# Altium schematic symbol library MCU_ST_STM32F7.SchLib: 113 symbols (part 7 of 7)
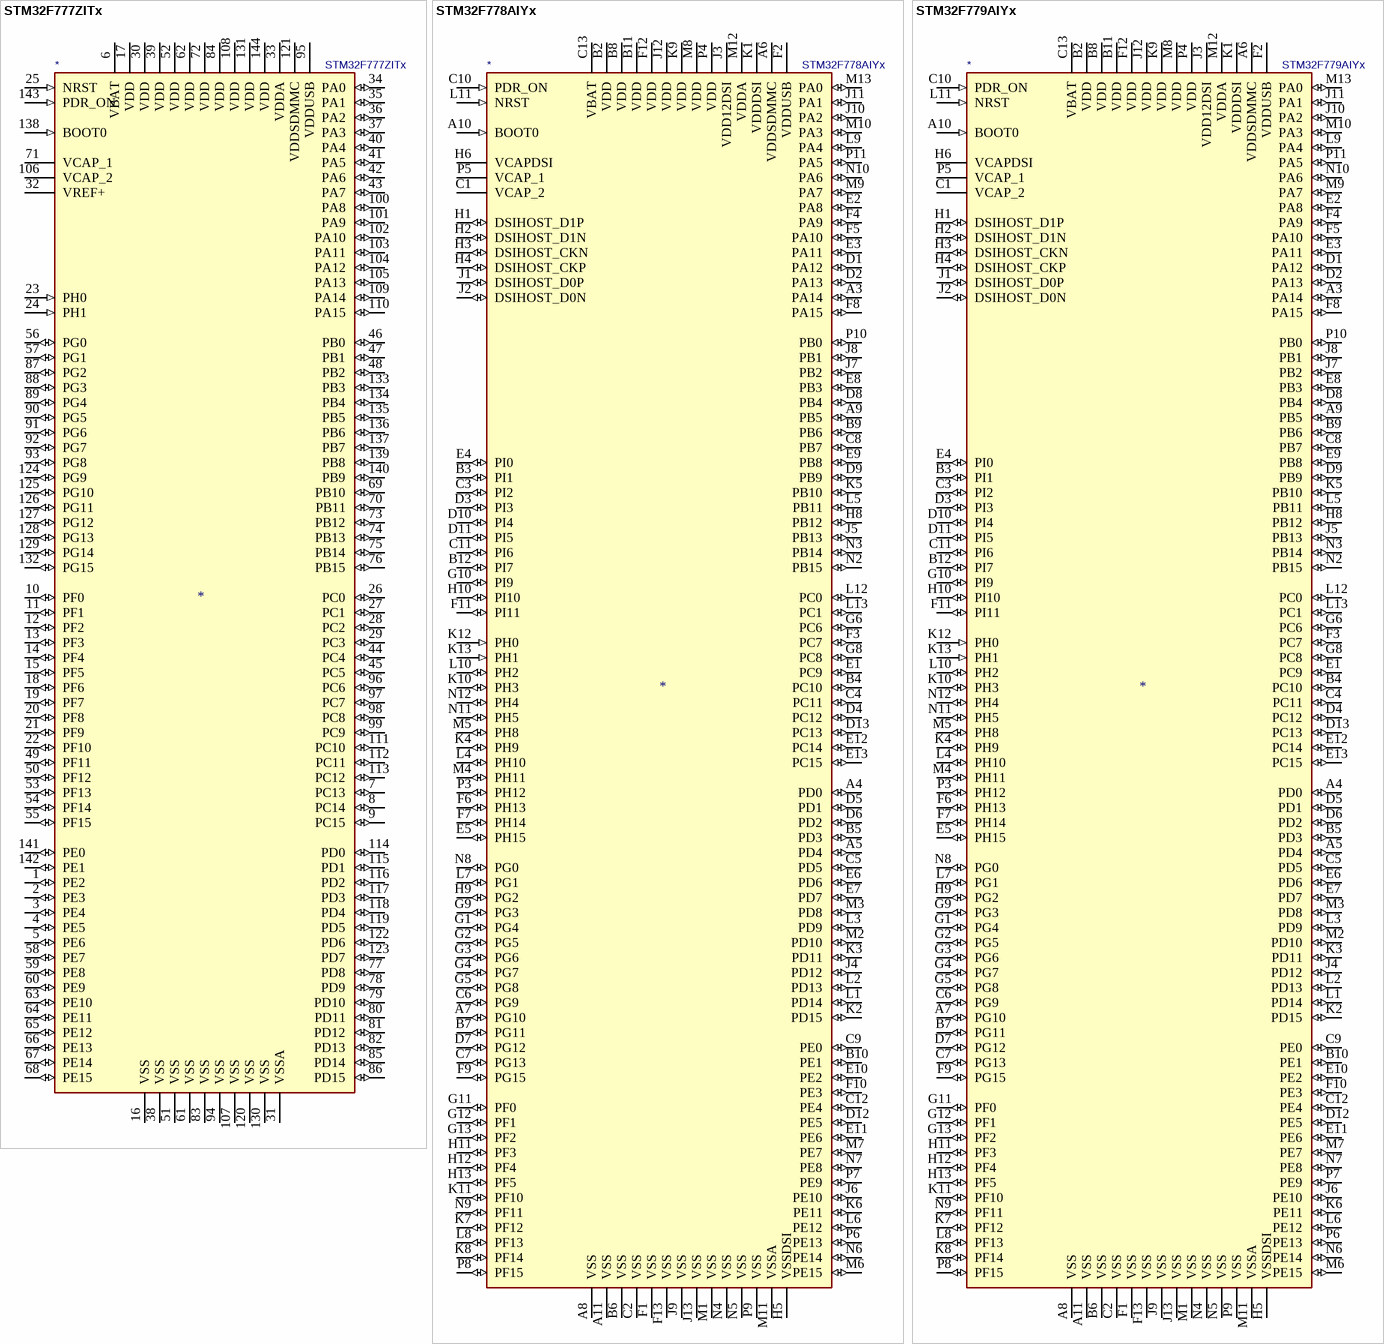
[diagram p47: symbols STM32F777ZITx to STM32F779AIYx]

## STM32F777ZITx
designator *  value STM32F777ZITx
ki_keywords: ARM Cortex-M7 STM32F7 STM32F7x7; ki_description: ARM Cortex-M7 MCU, 2048KB flash, 384KB RAM, 216MHz, 1.7-3.6V, 114 GPIO, LQFP-144; ki_fp_filters: LQFP*20x20mm*P0.5mm*; Footprint: Package_QFP:LQFP-144_20x20mm_P0.5mm; Supplier: http://www.st.com/st-web-ui/static/active/en/resource/technical/document/datasheet/DM00225424.pdf
footprint LQFP-144_20x20mm_P0.5mm
pins: 1 PE2 (io), 2 PE3 (io), 3 PE4 (io), 4 PE5 (io), 5 PE6 (io), 6 VBAT (power), 7 PC13 (io), 8 PC14 (io), 9 PC15 (io), 10 PF0 (io), 11 PF1 (io), 12 PF2 (io), 13 PF3 (io), 14 PF4 (io), 15 PF5 (io), 16 VSS (power), 17 VDD (power), 18 PF6 (io), 19 PF7 (io), 20 PF8 (io), 21 PF9 (io), 22 PF10 (io), 23 PH0 (in), 24 PH1 (in), 25 NRST (in), 26 PC0 (io), 27 PC1 (io), 28 PC2 (io), 29 PC3 (io), 30 VDD (power), 31 VSSA (power), 32 VREF+ (power), 33 VDDA (power), 34 PA0 (io), 35 PA1 (io), 36 PA2 (io), 37 PA3 (io), 38 VSS (power), 39 VDD (power), 40 PA4 (io), 41 PA5 (io), 42 PA6 (io), 43 PA7 (io), 44 PC4 (io), 45 PC5 (io), 46 PB0 (io), 47 PB1 (io), 48 PB2 (io), 49 PF11 (io), 50 PF12 (io), 51 VSS (power), 52 VDD (power), 53 PF13 (io), 54 PF14 (io), 55 PF15 (io), 56 PG0 (io), 57 PG1 (io), 58 PE7 (io), 59 PE8 (io), 60 PE9 (io), 61 VSS (power), 62 VDD (power), 63 PE10 (io), 64 PE11 (io), 65 PE12 (io), 66 PE13 (io), 67 PE14 (io), 68 PE15 (io), 69 PB10 (io), 70 PB11 (io), 71 VCAP_1 (power), 72 VDD (power), 73 PB12 (io), 74 PB13 (io), 75 PB14 (io), 76 PB15 (io), 77 PD8 (io), 78 PD9 (io), 79 PD10 (io), 80 PD11 (io), 81 PD12 (io), 82 PD13 (io), 83 VSS (power), 84 VDD (power), 85 PD14 (io), 86 PD15 (io), 87 PG2 (io), 88 PG3 (io), 89 PG4 (io), 90 PG5 (io), 91 PG6 (io), 92 PG7 (io), 93 PG8 (io), 94 VSS (power), 95 VDDUSB (power), 96 PC6 (io), 97 PC7 (io), 98 PC8 (io), 99 PC9 (io), 100 PA8 (io), 101 PA9 (io), 102 PA10 (io), 103 PA11 (io), 104 PA12 (io), 105 PA13 (io), 106 VCAP_2 (power), 107 VSS (power), 108 VDD (power), 109 PA14 (io), 110 PA15 (io), 111 PC10 (io), 112 PC11 (io), 113 PC12 (io), 114 PD0 (io), 115 PD1 (io), 116 PD2 (io), 117 PD3 (io), 118 PD4 (io), 119 PD5 (io), 120 VSS (power), 121 VDDSDMMC (power), 122 PD6 (io), 123 PD7 (io), 124 PG9 (io), 125 PG10 (io), 126 PG11 (io), 127 PG12 (io), 128 PG13 (io), 129 PG14 (io), 130 VSS (power), 131 VDD (power), 132 PG15 (io), 133 PB3 (io), 134 PB4 (io), 135 PB5 (io), 136 PB6 (io), 137 PB7 (io), 138 BOOT0 (in), 139 PB8 (io), 140 PB9 (io), 141 PE0 (io), 142 PE1 (io), 143 PDR_ON (in), 144 VDD (power)

## STM32F778AIYx
designator *  value STM32F778AIYx
ki_keywords: ARM Cortex-M7 STM32F7 STM32F7x8; ki_description: ARM Cortex-M7 MCU, 2048KB flash, 384KB RAM, 216MHz, 1.7-3.6V, 128 GPIO, WLCSP-180; ki_fp_filters: ST_WLCSP*Die451*; Footprint: Package_CSP:ST_WLCSP-180_Die451; Supplier: http://www.st.com/st-web-ui/static/active/en/resource/technical/document/datasheet/DM00225424.pdf
footprint ST_WLCSP-180_Die451
pins: A1 NC (in) hidden, A2 NC (in) hidden, A3 PA14 (io), A4 PD0 (io), A5 PD4 (io), A6 VDDSDMMC (power), A7 PG10 (io), A8 VSS (power), A9 PB5 (io), A10 BOOT0 (in), A11 VSS (power), A12 NC (in) hidden, A13 NC (in) hidden, B1 NC (in) hidden, B2 VDD (power), B3 PI1 (io), B4 PC10 (io), B5 PD3 (io), B6 VSS (power), B7 PG11 (io), B8 VDD (power), B9 PB6 (io), B10 PE1 (io), B11 VDD (power), B12 PI7 (io), B13 NC (in) hidden, C1 VCAP_2 (power), C2 VSS (power), C3 PI2 (io), C4 PC11 (io), C5 PD5 (io), C6 PG9 (io), C7 PG13 (io), C8 PB7 (io), C9 PE0 (io), C10 PDR_ON (in), C11 PI6 (io), C12 PE4 (io), C13 VBAT (power), D1 PA12 (io), D2 PA13 (io), D3 PI3 (io), D4 PC12 (io), D5 PD1 (io), D6 PD2 (io), D7 PG12 (io), D8 PB4 (io), D9 PB9 (io), D10 PI4 (io), D11 PI5 (io), D12 PE5 (io), D13 PC13 (io), E1 PC9 (io), E2 PA8 (io), E3 PA11 (io), E4 PI0 (io), E5 PH15 (io), E6 PD6 (io), E7 PD7 (io), E8 PB3 (io), E9 PB8 (io), E10 PE2 (io), E11 PE6 (io), E12 PC14 (io), E13 PC15 (io), F1 VSS (power), F2 VDDUSB (power), F3 PC7 (io), F4 PA9 (io), F5 PA10 (io), F6 PH13 (io), F7 PH14 (io), F8 PA15 (io), F9 PG15 (io), F10 PE3 (io), F11 PI11 (io), F12 VDD (power), F13 VSS (power), G1 PG4 (io), G2 PG5 (io), G3 PG6 (io), G4 PG7 (io), G5 PG8 (io), G6 PC6 (io), G8 PC8 (io), G9 PG3 (io), G10 PI9 (io), G11 PF0 (io), G12 PF1 (io), G13 PF2 (io), H1 DSIHOST_D1P (io), H2 DSIHOST_D1N (io), H3 DSIHOST_CKN (io), H4 DSIHOST_CKP (io), H5 VSSDSI (power), H6 VCAPDSI (power), H8 PB12 (io), H9 PG2 (io), H10 PI10 (io), H11 PF3 (io), H12 PF4 (io), H13 PF5 (io), J1 DSIHOST_D0P (io), J2 DSIHOST_D0N (io), J3 VDD12DSI (power), J4 PD12 (io), J5 PB13 (io), J6 PE10 (io), J7 PB2 (io), J8 PB1 (io), J9 VSS (power), J10 PA2 (io), J11 PA1 (io), J12 VDD (power), J13 VSS (power), K1 VDDDSI (power), K2 PD15 (io), K3 PD11 (io), K4 PH9 (io), K5 PB10 (io), K6 PE11 (io), K7 PF12 (io), K8 PF14 (io), K9 VDD (power), K10 PH3 (io), K11 PF10 (io), K12 PH0 (in), K13 PH1 (in), L1 PD14 (io), L2 PD13 (io), L3 PD9 (io), L4 PH10 (io), L5 PB11 (io), L6 PE12 (io), L7 PG1 (io), L8 PF13 (io), L9 PA4 (io), L10 PH2 (io), L11 NRST (in), L12 PC0 (io), L13 PC1 (io), M1 VSS (power), M2 PD10 (io), M3 PD8 (io), M4 PH11 (io), M5 PH8 (io), M6 PE15 (io), M7 PE7 (io), M8 VDD (power), M9 PA7 (io), M10 PA3 (io), M11 VSSA (power), M12 VDDA (power), M13 PA0 (io), N1 NC (in) hidden, N2 PB15 (io), N3 PB14 (io), N4 VSS (power), N5 VSS (power), N6 PE14 (io), N7 PE8 (io), N8 PG0 (io), N9 PF11 (io), N10 PA6 (io), N11 PH5 (io), N12 PH4 (io), N13 NC (in) hidden, P1 NC (in) hidden, P2 NC (in) hidden, P3 PH12 (io), P4 VDD (power), P5 VCAP_1 (power), P6 PE13 (io), P7 PE9 (io), P8 PF15 (io), P9 VSS (power), P10 PB0 (io), P11 PA5 (io), P12 NC (in) hidden, P13 NC (in) hidden

## STM32F779AIYx
designator *  value STM32F779AIYx
ki_keywords: ARM Cortex-M7 STM32F7 STM32F7x9; ki_description: ARM Cortex-M7 MCU, 2048KB flash, 384KB RAM, 216MHz, 1.7-3.6V, 128 GPIO, WLCSP-180; ki_fp_filters: ST_WLCSP*Die451*; Footprint: Package_CSP:ST_WLCSP-180_Die451; Supplier: http://www.st.com/st-web-ui/static/active/en/resource/technical/document/datasheet/DM00225424.pdf
footprint ST_WLCSP-180_Die451
pins: A1 NC (in) hidden, A2 NC (in) hidden, A3 PA14 (io), A4 PD0 (io), A5 PD4 (io), A6 VDDSDMMC (power), A7 PG10 (io), A8 VSS (power), A9 PB5 (io), A10 BOOT0 (in), A11 VSS (power), A12 NC (in) hidden, A13 NC (in) hidden, B1 NC (in) hidden, B2 VDD (power), B3 PI1 (io), B4 PC10 (io), B5 PD3 (io), B6 VSS (power), B7 PG11 (io), B8 VDD (power), B9 PB6 (io), B10 PE1 (io), B11 VDD (power), B12 PI7 (io), B13 NC (in) hidden, C1 VCAP_2 (power), C2 VSS (power), C3 PI2 (io), C4 PC11 (io), C5 PD5 (io), C6 PG9 (io), C7 PG13 (io), C8 PB7 (io), C9 PE0 (io), C10 PDR_ON (in), C11 PI6 (io), C12 PE4 (io), C13 VBAT (power), D1 PA12 (io), D2 PA13 (io), D3 PI3 (io), D4 PC12 (io), D5 PD1 (io), D6 PD2 (io), D7 PG12 (io), D8 PB4 (io), D9 PB9 (io), D10 PI4 (io), D11 PI5 (io), D12 PE5 (io), D13 PC13 (io), E1 PC9 (io), E2 PA8 (io), E3 PA11 (io), E4 PI0 (io), E5 PH15 (io), E6 PD6 (io), E7 PD7 (io), E8 PB3 (io), E9 PB8 (io), E10 PE2 (io), E11 PE6 (io), E12 PC14 (io), E13 PC15 (io), F1 VSS (power), F2 VDDUSB (power), F3 PC7 (io), F4 PA9 (io), F5 PA10 (io), F6 PH13 (io), F7 PH14 (io), F8 PA15 (io), F9 PG15 (io), F10 PE3 (io), F11 PI11 (io), F12 VDD (power), F13 VSS (power), G1 PG4 (io), G2 PG5 (io), G3 PG6 (io), G4 PG7 (io), G5 PG8 (io), G6 PC6 (io), G8 PC8 (io), G9 PG3 (io), G10 PI9 (io), G11 PF0 (io), G12 PF1 (io), G13 PF2 (io), H1 DSIHOST_D1P (io), H2 DSIHOST_D1N (io), H3 DSIHOST_CKN (io), H4 DSIHOST_CKP (io), H5 VSSDSI (power), H6 VCAPDSI (power), H8 PB12 (io), H9 PG2 (io), H10 PI10 (io), H11 PF3 (io), H12 PF4 (io), H13 PF5 (io), J1 DSIHOST_D0P (io), J2 DSIHOST_D0N (io), J3 VDD12DSI (power), J4 PD12 (io), J5 PB13 (io), J6 PE10 (io), J7 PB2 (io), J8 PB1 (io), J9 VSS (power), J10 PA2 (io), J11 PA1 (io), J12 VDD (power), J13 VSS (power), K1 VDDDSI (power), K2 PD15 (io), K3 PD11 (io), K4 PH9 (io), K5 PB10 (io), K6 PE11 (io), K7 PF12 (io), K8 PF14 (io), K9 VDD (power), K10 PH3 (io), K11 PF10 (io), K12 PH0 (in), K13 PH1 (in), L1 PD14 (io), L2 PD13 (io), L3 PD9 (io), L4 PH10 (io), L5 PB11 (io), L6 PE12 (io), L7 PG1 (io), L8 PF13 (io), L9 PA4 (io), L10 PH2 (io), L11 NRST (in), L12 PC0 (io), L13 PC1 (io), M1 VSS (power), M2 PD10 (io), M3 PD8 (io), M4 PH11 (io), M5 PH8 (io), M6 PE15 (io), M7 PE7 (io), M8 VDD (power), M9 PA7 (io), M10 PA3 (io), M11 VSSA (power), M12 VDDA (power), M13 PA0 (io), N1 NC (in) hidden, N2 PB15 (io), N3 PB14 (io), N4 VSS (power), N5 VSS (power), N6 PE14 (io), N7 PE8 (io), N8 PG0 (io), N9 PF11 (io), N10 PA6 (io), N11 PH5 (io), N12 PH4 (io), N13 NC (in) hidden, P1 NC (in) hidden, P2 NC (in) hidden, P3 PH12 (io), P4 VDD (power), P5 VCAP_1 (power), P6 PE13 (io), P7 PE9 (io), P8 PF15 (io), P9 VSS (power), P10 PB0 (io), P11 PA5 (io), P12 NC (in) hidden, P13 NC (in) hidden

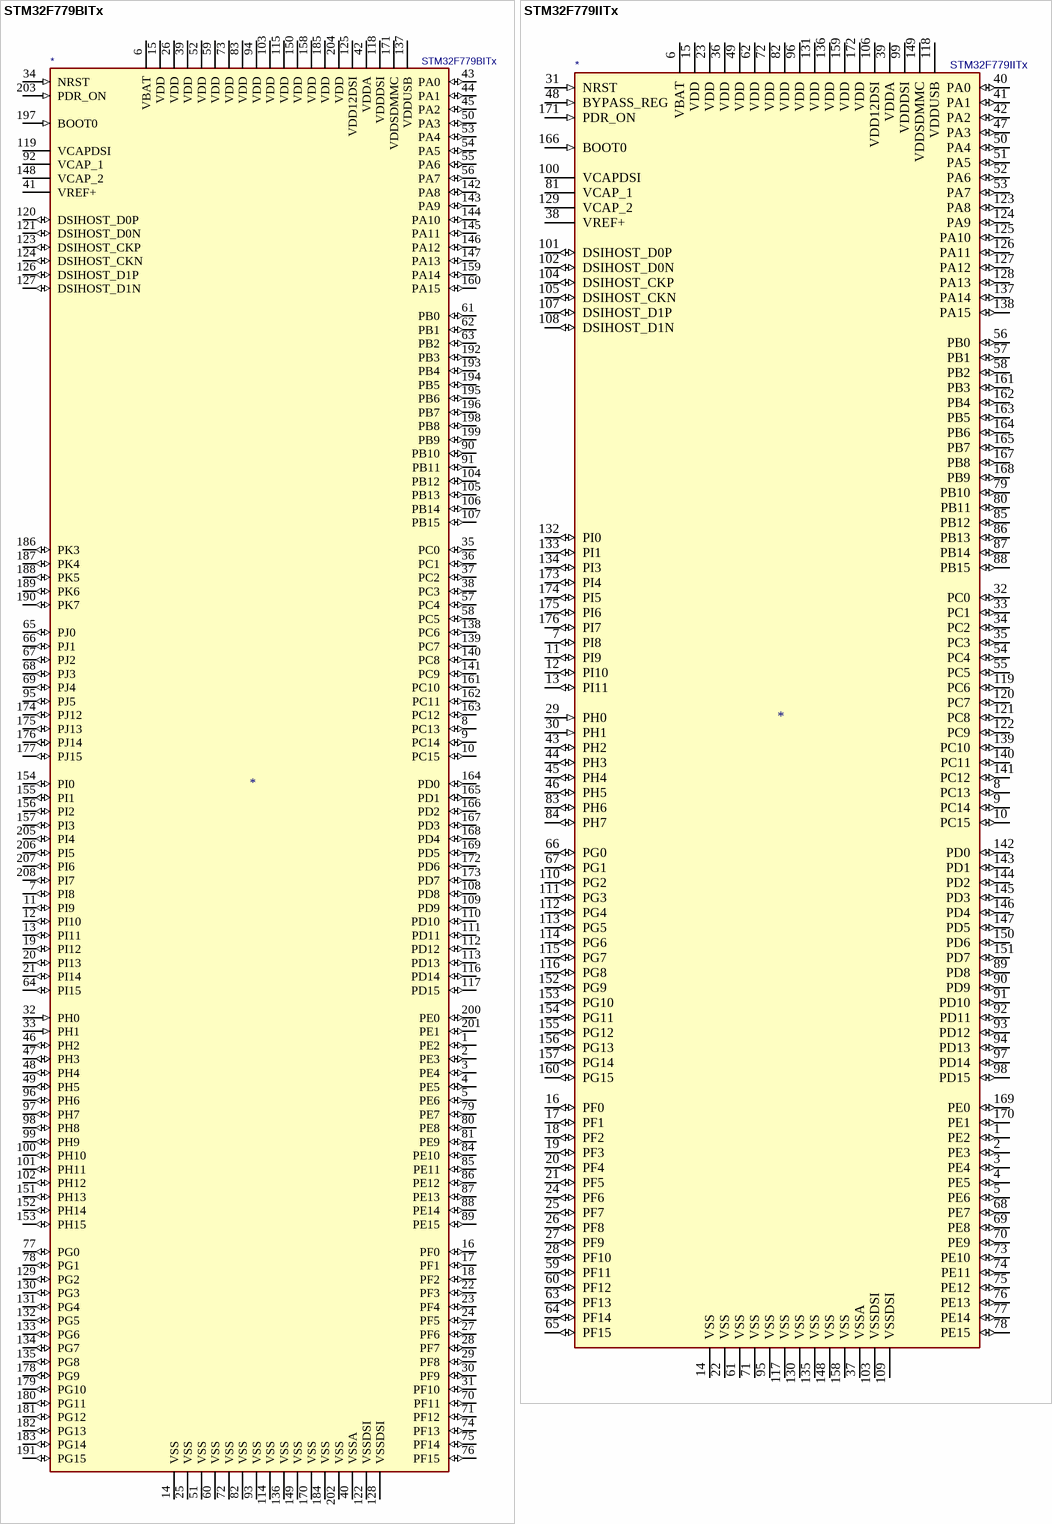
[diagram p40: symbols STM32F779BITx to STM32F779IITx]

## STM32F779BITx
designator *  value STM32F779BITx
ki_keywords: ARM Cortex-M7 STM32F7 STM32F7x9; ki_description: ARM Cortex-M7 MCU, 2048KB flash, 384KB RAM, 216MHz, 1.7-3.6V, 159 GPIO, LQFP-208; ki_fp_filters: LQFP*28x28mm*P0.5mm*; Footprint: Package_QFP:LQFP-208_28x28mm_P0.5mm; Supplier: http://www.st.com/st-web-ui/static/active/en/resource/technical/document/datasheet/DM00225424.pdf
footprint LQFP-208_28x28mm_P0.5mm
pins: 1 PE2 (io), 2 PE3 (io), 3 PE4 (io), 4 PE5 (io), 5 PE6 (io), 6 VBAT (power), 7 PI8 (io), 8 PC13 (io), 9 PC14 (io), 10 PC15 (io), 11 PI9 (io), 12 PI10 (io), 13 PI11 (io), 14 VSS (power), 15 VDD (power), 16 PF0 (io), 17 PF1 (io), 18 PF2 (io), 19 PI12 (io), 20 PI13 (io), 21 PI14 (io), 22 PF3 (io), 23 PF4 (io), 24 PF5 (io), 25 VSS (power), 26 VDD (power), 27 PF6 (io), 28 PF7 (io), 29 PF8 (io), 30 PF9 (io), 31 PF10 (io), 32 PH0 (in), 33 PH1 (in), 34 NRST (in), 35 PC0 (io), 36 PC1 (io), 37 PC2 (io), 38 PC3 (io), 39 VDD (power), 40 VSSA (power), 41 VREF+ (power), 42 VDDA (power), 43 PA0 (io), 44 PA1 (io), 45 PA2 (io), 46 PH2 (io), 47 PH3 (io), 48 PH4 (io), 49 PH5 (io), 50 PA3 (io), 51 VSS (power), 52 VDD (power), 53 PA4 (io), 54 PA5 (io), 55 PA6 (io), 56 PA7 (io), 57 PC4 (io), 58 PC5 (io), 59 VDD (power), 60 VSS (power), 61 PB0 (io), 62 PB1 (io), 63 PB2 (io), 64 PI15 (io), 65 PJ0 (io), 66 PJ1 (io), 67 PJ2 (io), 68 PJ3 (io), 69 PJ4 (io), 70 PF11 (io), 71 PF12 (io), 72 VSS (power), 73 VDD (power), 74 PF13 (io), 75 PF14 (io), 76 PF15 (io), 77 PG0 (io), 78 PG1 (io), 79 PE7 (io), 80 PE8 (io), 81 PE9 (io), 82 VSS (power), 83 VDD (power), 84 PE10 (io), 85 PE11 (io), 86 PE12 (io), 87 PE13 (io), 88 PE14 (io), 89 PE15 (io), 90 PB10 (io), 91 PB11 (io), 92 VCAP_1 (power), 93 VSS (power), 94 VDD (power), 95 PJ5 (io), 96 PH6 (io), 97 PH7 (io), 98 PH8 (io), 99 PH9 (io), 100 PH10 (io), 101 PH11 (io), 102 PH12 (io), 103 VDD (power), 104 PB12 (io), 105 PB13 (io), 106 PB14 (io), 107 PB15 (io), 108 PD8 (io), 109 PD9 (io), 110 PD10 (io), 111 PD11 (io), 112 PD12 (io), 113 PD13 (io), 114 VSS (power), 115 VDD (power), 116 PD14 (io), 117 PD15 (io), 118 VDDDSI (power), 119 VCAPDSI (power), 120 DSIHOST_D0P (io), 121 DSIHOST_D0N (io), 122 VSSDSI (power), 123 DSIHOST_CKP (io), 124 DSIHOST_CKN (io), 125 VDD12DSI (power), 126 DSIHOST_D1P (io), 127 DSIHOST_D1N (io), 128 VSSDSI (power), 129 PG2 (io), 130 PG3 (io), 131 PG4 (io), 132 PG5 (io), 133 PG6 (io), 134 PG7 (io), 135 PG8 (io), 136 VSS (power), 137 VDDUSB (power), 138 PC6 (io), 139 PC7 (io), 140 PC8 (io), 141 PC9 (io), 142 PA8 (io), 143 PA9 (io), 144 PA10 (io), 145 PA11 (io), 146 PA12 (io), 147 PA13 (io), 148 VCAP_2 (power), 149 VSS (power), 150 VDD (power), 151 PH13 (io), 152 PH14 (io), 153 PH15 (io), 154 PI0 (io), 155 PI1 (io), 156 PI2 (io), 157 PI3 (io), 158 VDD (power), 159 PA14 (io), 160 PA15 (io), 161 PC10 (io), 162 PC11 (io), 163 PC12 (io), 164 PD0 (io), 165 PD1 (io), 166 PD2 (io), 167 PD3 (io), 168 PD4 (io), 169 PD5 (io), 170 VSS (power), 171 VDDSDMMC (power), 172 PD6 (io), 173 PD7 (io), 174 PJ12 (io), 175 PJ13 (io), 176 PJ14 (io), 177 PJ15 (io), 178 PG9 (io), 179 PG10 (io), 180 PG11 (io), 181 PG12 (io), 182 PG13 (io), 183 PG14 (io), 184 VSS (power), 185 VDD (power), 186 PK3 (io), 187 PK4 (io), 188 PK5 (io), 189 PK6 (io), 190 PK7 (io), 191 PG15 (io), 192 PB3 (io), 193 PB4 (io), 194 PB5 (io), 195 PB6 (io), 196 PB7 (io), 197 BOOT0 (in), 198 PB8 (io), 199 PB9 (io), 200 PE0 (io), 201 PE1 (io), 202 VSS (power), 203 PDR_ON (in), 204 VDD (power), 205 PI4 (io), 206 PI5 (io), 207 PI6 (io), 208 PI7 (io)

## STM32F779IITx
designator *  value STM32F779IITx
ki_keywords: ARM Cortex-M7 STM32F7 STM32F7x9; ki_description: ARM Cortex-M7 MCU, 2048KB flash, 384KB RAM, 216MHz, 1.7-3.6V, 131 GPIO, LQFP-176; ki_fp_filters: LQFP*24x24mm*P0.5mm*; Footprint: Package_QFP:LQFP-176_24x24mm_P0.5mm; Supplier: http://www.st.com/st-web-ui/static/active/en/resource/technical/document/datasheet/DM00225424.pdf
footprint LQFP-176_24x24mm_P0.5mm
pins: 1 PE2 (io), 2 PE3 (io), 3 PE4 (io), 4 PE5 (io), 5 PE6 (io), 6 VBAT (power), 7 PI8 (io), 8 PC13 (io), 9 PC14 (io), 10 PC15 (io), 11 PI9 (io), 12 PI10 (io), 13 PI11 (io), 14 VSS (power), 15 VDD (power), 16 PF0 (io), 17 PF1 (io), 18 PF2 (io), 19 PF3 (io), 20 PF4 (io), 21 PF5 (io), 22 VSS (power), 23 VDD (power), 24 PF6 (io), 25 PF7 (io), 26 PF8 (io), 27 PF9 (io), 28 PF10 (io), 29 PH0 (in), 30 PH1 (in), 31 NRST (in), 32 PC0 (io), 33 PC1 (io), 34 PC2 (io), 35 PC3 (io), 36 VDD (power), 37 VSSA (power), 38 VREF+ (power), 39 VDDA (power), 40 PA0 (io), 41 PA1 (io), 42 PA2 (io), 43 PH2 (io), 44 PH3 (io), 45 PH4 (io), 46 PH5 (io), 47 PA3 (io), 48 BYPASS_REG (in), 49 VDD (power), 50 PA4 (io), 51 PA5 (io), 52 PA6 (io), 53 PA7 (io), 54 PC4 (io), 55 PC5 (io), 56 PB0 (io), 57 PB1 (io), 58 PB2 (io), 59 PF11 (io), 60 PF12 (io), 61 VSS (power), 62 VDD (power), 63 PF13 (io), 64 PF14 (io), 65 PF15 (io), 66 PG0 (io), 67 PG1 (io), 68 PE7 (io), 69 PE8 (io), 70 PE9 (io), 71 VSS (power), 72 VDD (power), 73 PE10 (io), 74 PE11 (io), 75 PE12 (io), 76 PE13 (io), 77 PE14 (io), 78 PE15 (io), 79 PB10 (io), 80 PB11 (io), 81 VCAP_1 (power), 82 VDD (power), 83 PH6 (io), 84 PH7 (io), 85 PB12 (io), 86 PB13 (io), 87 PB14 (io), 88 PB15 (io), 89 PD8 (io), 90 PD9 (io), 91 PD10 (io), 92 PD11 (io), 93 PD12 (io), 94 PD13 (io), 95 VSS (power), 96 VDD (power), 97 PD14 (io), 98 PD15 (io), 99 VDDDSI (power), 100 VCAPDSI (power), 101 DSIHOST_D0P (io), 102 DSIHOST_D0N (io), 103 VSSDSI (power), 104 DSIHOST_CKP (io), 105 DSIHOST_CKN (io), 106 VDD12DSI (power), 107 DSIHOST_D1P (io), 108 DSIHOST_D1N (io), 109 VSSDSI (power), 110 PG2 (io), 111 PG3 (io), 112 PG4 (io), 113 PG5 (io), 114 PG6 (io), 115 PG7 (io), 116 PG8 (io), 117 VSS (power), 118 VDDUSB (power), 119 PC6 (io), 120 PC7 (io), 121 PC8 (io), 122 PC9 (io), 123 PA8 (io), 124 PA9 (io), 125 PA10 (io), 126 PA11 (io), 127 PA12 (io), 128 PA13 (io), 129 VCAP_2 (power), 130 VSS (power), 131 VDD (power), 132 PI0 (io), 133 PI1 (io), 134 PI3 (io), 135 VSS (power), 136 VDD (power), 137 PA14 (io), 138 PA15 (io), 139 PC10 (io), 140 PC11 (io), 141 PC12 (io), 142 PD0 (io), 143 PD1 (io), 144 PD2 (io), 145 PD3 (io), 146 PD4 (io), 147 PD5 (io), 148 VSS (power), 149 VDDSDMMC (power), 150 PD6 (io), 151 PD7 (io), 152 PG9 (io), 153 PG10 (io), 154 PG11 (io), 155 PG12 (io), 156 PG13 (io), 157 PG14 (io), 158 VSS (power), 159 VDD (power), 160 PG15 (io), 161 PB3 (io), 162 PB4 (io), 163 PB5 (io), 164 PB6 (io), 165 PB7 (io), 166 BOOT0 (in), 167 PB8 (io), 168 PB9 (io), 169 PE0 (io), 170 PE1 (io), 171 PDR_ON (in), 172 VDD (power), 173 PI4 (io), 174 PI5 (io), 175 PI6 (io), 176 PI7 (io)

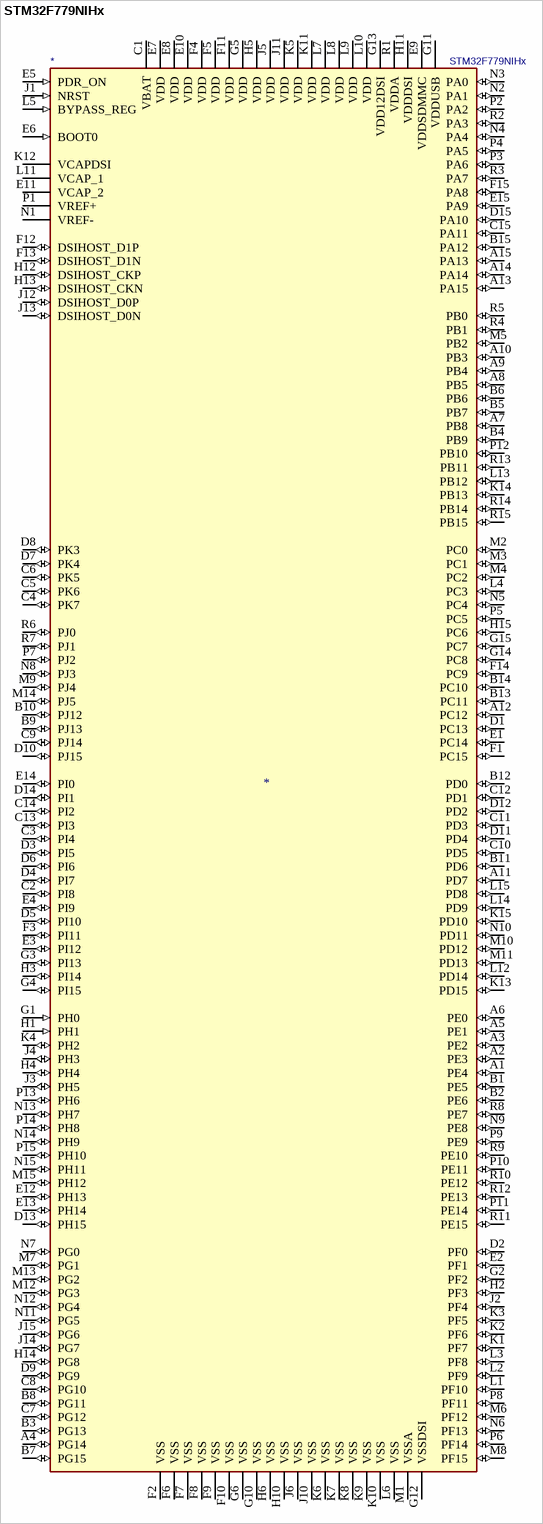
[diagram p41: symbol STM32F779NIHx]

## STM32F779NIHx
designator *  value STM32F779NIHx
ki_keywords: ARM Cortex-M7 STM32F7 STM32F7x9; ki_description: ARM Cortex-M7 MCU, 2048KB flash, 384KB RAM, 216MHz, 1.7-3.6V, 159 GPIO, TFBGA-216; ki_fp_filters: TFBGA*13x13mm*Layout15x15*P0.8mm*; Footprint: Package_BGA:TFBGA-216_13x13mm_Layout15x15_P0.8mm; Supplier: http://www.st.com/st-web-ui/static/active/en/resource/technical/document/datasheet/DM00225424.pdf
footprint TFBGA-216_13x13mm_Layout15x15_P0.8mm
pins: A1 PE4 (io), A2 PE3 (io), A3 PE2 (io), A4 PG14 (io), A5 PE1 (io), A6 PE0 (io), A7 PB8 (io), A8 PB5 (io), A9 PB4 (io), A10 PB3 (io), A11 PD7 (io), A12 PC12 (io), A13 PA15 (io), A14 PA14 (io), A15 PA13 (io), B1 PE5 (io), B2 PE6 (io), B3 PG13 (io), B4 PB9 (io), B5 PB7 (io), B6 PB6 (io), B7 PG15 (io), B8 PG11 (io), B9 PJ13 (io), B10 PJ12 (io), B11 PD6 (io), B12 PD0 (io), B13 PC11 (io), B14 PC10 (io), B15 PA12 (io), C1 VBAT (power), C2 PI8 (io), C3 PI4 (io), C4 PK7 (io), C5 PK6 (io), C6 PK5 (io), C7 PG12 (io), C8 PG10 (io), C9 PJ14 (io), C10 PD5 (io), C11 PD3 (io), C12 PD1 (io), C13 PI3 (io), C14 PI2 (io), C15 PA11 (io), D1 PC13 (io), D2 PF0 (io), D3 PI5 (io), D4 PI7 (io), D5 PI10 (io), D6 PI6 (io), D7 PK4 (io), D8 PK3 (io), D9 PG9 (io), D10 PJ15 (io), D11 PD4 (io), D12 PD2 (io), D13 PH15 (io), D14 PI1 (io), D15 PA10 (io), E1 PC14 (io), E2 PF1 (io), E3 PI12 (io), E4 PI9 (io), E5 PDR_ON (in), E6 BOOT0 (in), E7 VDD (power), E8 VDD (power), E9 VDDSDMMC (power), E10 VDD (power), E11 VCAP_2 (power), E12 PH13 (io), E13 PH14 (io), E14 PI0 (io), E15 PA9 (io), F1 PC15 (io), F2 VSS (power), F3 PI11 (io), F4 VDD (power), F5 VDD (power), F6 VSS (power), F7 VSS (power), F8 VSS (power), F9 VSS (power), F10 VSS (power), F11 VDD (power), F12 DSIHOST_D1P (io), F13 DSIHOST_D1N (io), F14 PC9 (io), F15 PA8 (io), G1 PH0 (in), G2 PF2 (io), G3 PI13 (io), G4 PI15 (io), G5 VDD (power), G6 VSS (power), G10 VSS (power), G11 VDDUSB (power), G12 VSSDSI (power), G13 VDD12DSI (power), G14 PC8 (io), G15 PC7 (io), H1 PH1 (in), H2 PF3 (io), H3 PI14 (io), H4 PH4 (io), H5 VDD (power), H6 VSS (power), H10 VSS (power), H11 VDDDSI (power), H12 DSIHOST_CKP (io), H13 DSIHOST_CKN (io), H14 PG8 (io), H15 PC6 (io), J1 NRST (in), J2 PF4 (io), J3 PH5 (io), J4 PH3 (io), J5 VDD (power), J6 VSS (power), J10 VSS (power), J11 VDD (power), J12 DSIHOST_D0P (io), J13 DSIHOST_D0N (io), J14 PG7 (io), J15 PG6 (io), K1 PF7 (io), K2 PF6 (io), K3 PF5 (io), K4 PH2 (io), K5 VDD (power), K6 VSS (power), K7 VSS (power), K8 VSS (power), K9 VSS (power), K10 VSS (power), K11 VDD (power), K12 VCAPDSI (power), K13 PD15 (io), K14 PB13 (io), K15 PD10 (io), L1 PF10 (io), L2 PF9 (io), L3 PF8 (io), L4 PC3 (io), L5 BYPASS_REG (in), L6 VSS (power), L7 VDD (power), L8 VDD (power), L9 VDD (power), L10 VDD (power), L11 VCAP_1 (power), L12 PD14 (io), L13 PB12 (io), L14 PD9 (io), L15 PD8 (io), M1 VSSA (power), M2 PC0 (io), M3 PC1 (io), M4 PC2 (io), M5 PB2 (io), M6 PF12 (io), M7 PG1 (io), M8 PF15 (io), M9 PJ4 (io), M10 PD12 (io), M11 PD13 (io), M12 PG3 (io), M13 PG2 (io), M14 PJ5 (io), M15 PH12 (io), N1 VREF- (power), N2 PA1 (io), N3 PA0 (io), N4 PA4 (io), N5 PC4 (io), N6 PF13 (io), N7 PG0 (io), N8 PJ3 (io), N9 PE8 (io), N10 PD11 (io), N11 PG5 (io), N12 PG4 (io), N13 PH7 (io), N14 PH9 (io), N15 PH11 (io), P1 VREF+ (power), P2 PA2 (io), P3 PA6 (io), P4 PA5 (io), P5 PC5 (io), P6 PF14 (io), P7 PJ2 (io), P8 PF11 (io), P9 PE9 (io), P10 PE11 (io), P11 PE14 (io), P12 PB10 (io), P13 PH6 (io), P14 PH8 (io), P15 PH10 (io), R1 VDDA (power), R2 PA3 (io), R3 PA7 (io), R4 PB1 (io), R5 PB0 (io), R6 PJ0 (io), R7 PJ1 (io), R8 PE7 (io), R9 PE10 (io), R10 PE12 (io), R11 PE15 (io), R12 PE13 (io), R13 PB11 (io), R14 PB14 (io), R15 PB15 (io)